# Altium footprint library Otto Pcb Lib.PcbLib: 46 footprints (part 2 of 3)
Each footprint in its own frame and in the unit in brackets; x right, y up, seen from the top. Pads: shape width x height; smd on the part's side, far side on the other; paste and mask are expansions set on the pad; w line width, h text height; cw(c..) or ccw(c..) is an arc to the next point about the centre after c.
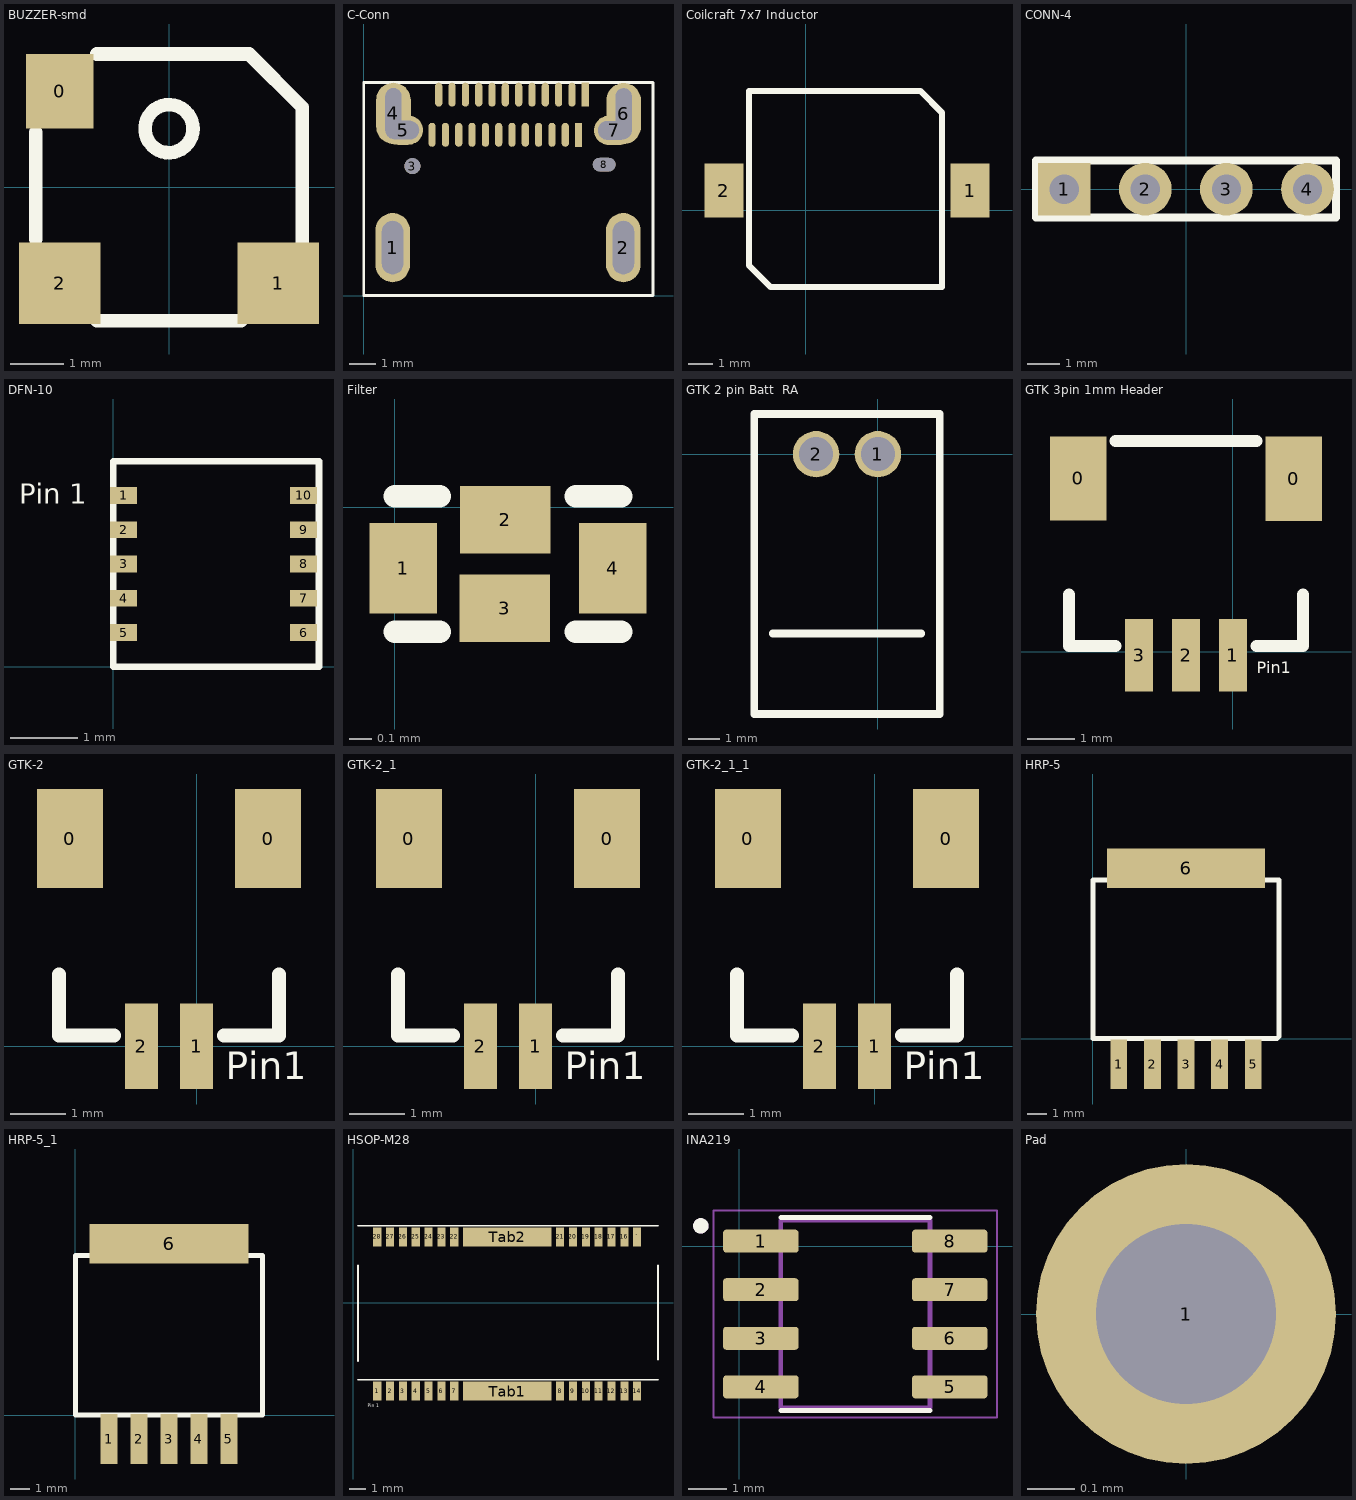
[diagram p1: the footprints below, top view; thin cyan lines are the x and y axes]

## BUZZER-smd [mm]
height 0.5
pads (3):
  rect 1.27x1.397 smd: 0(-2.05,1.8)
  rect 1.524x1.524 smd: 1(2.05,-1.8) 2(-2.05,-1.8)
Top Overlay:
  circle w0.254: c0,1.1 r0.45
  lines w0.254: -2.5,-0.97 -2.5,1.029 ; -1.35,-2.5 1.35,-2.5 ; -1.35,2.5 1.5,2.5 2.5,1.5 2.5,-1.1

## C-Conn [mm] "GTK Type C Connector"
height 0.127
pads (32):
  oval 1.3x2.6 hole 0.8 slot 2 at 90 deg: 1(1.086,1.8) 2(9.746,1.8)
  round 0.6 hole 0.6: 3(1.826,4.855)
  oval 1.3x2.3 hole 0.6 slot 1.9 at 90 deg: 4(1.116,6.84) 6(9.756,6.83)
  oval 1.5x1.1 hole 0.7 slot 1.2 at 0 deg: 5(1.476,6.21) 7(9.396,6.2)
  oval 0.85x0.5 hole 0.5 slot 0.85 at 0 deg: 8(9.026,4.915)
  oval 0.27x0.9 smd: A1(2.816,7.54) A2(3.316,7.54) A3(3.816,7.54) A4(4.316,7.54) A5(4.816,7.54) A6(5.316,7.54) A7(5.816,7.54) A8(6.316,7.54) A9(6.816,7.54) A10(7.316,7.54) A11(7.816,7.54) B2(7.566,6.035) B3(7.066,6.035) B4(6.566,6.035) B5(6.066,6.035) B6(5.566,6.035) B7(5.066,6.035) B8(4.566,6.035) B9(4.066,6.035) B10(3.566,6.035) B11(3.066,6.035) B12(2.566,6.035)
  rect 0.27x0.9 smd: A12(8.316,7.54) B1(8.066,6.035)
Top Overlay:
  lines w0.1: 10.856,0 10.856,8 -0.004,8 -0.004,0 5.426,0 10.857,0

## Coilcraft 7x7 Inductor [mm]
height 1.9
pads (2):
  rect 1.6x2.2 smd: 1(6.69,0.796) 2(-3.343,0.796)
Top Overlay:
  lines w0.254: -2.327,-2.252 -1.438,-3.141 5.547,-3.141 5.547,3.971 4.658,4.86 -2.327,4.86 -2.327,-2.252
Top Solder:
  lines w0.254: 4.277,-3.141 5.547,-3.141

## CONN-4 [mil]
pads (4):
  rect 65x65 hole 36: 1(-150.21,-0.27)
  round 65 hole 36: 2(-50.21,-0.27) 3(49.79,-0.27) 4(149.79,-0.27)
Top Overlay:
  lines w10: -185,-35 -185,35 185,35 185,-35 -185,-35

## DFN-10 [mm]
height 1.9
pads (10):
  rect 0.4x0.25 smd: 1(0.153,2.54) 2(0.153,2.032) 3(0.153,1.524) 4(0.153,1.016) 5(0.153,0.508) 6(2.82,0.508) 7(2.82,1.016) 8(2.82,1.524) 9(2.82,2.032) 10(2.82,2.54)
Top Overlay:
  lines w0.1: 0,0 3.048,0 3.048,3.048 0.762,3.048 0,3.048 0,0
  text "Pin 1" at -1.397,2.413 h0.3

## Filter [mm] "Taiyo Uden 4 pin SMD"
pads (4):
  rect 0.3x0.4 smd: 1(0.038,-0.269) 4(0.964,-0.269)
  rect 0.4x0.3 smd: 2(0.488,-0.055) 3(0.486,-0.445)
Top Overlay:
  lines w0.1: 0,-0.55 0.2,-0.55 ; 0,0.05 0.2,0.05 ; 0.8,-0.55 1,-0.55 ; 0.8,0.05 1,0.05

## GTK 2 pin Batt  RA [mm] "GTK 2 Pin R/A 2.0MM WTBM-02S-TH1T-R"
pads (2):
  round 1.5 hole 1.1: 1(0,0) 2(-2,0)
Top Overlay:
  lines w0.254: -3.4,-5.8 1.4,-5.8 ; -4,-8.4 -4,1.3 2,1.3 2,-8.4 -4,-8.4

## GTK 3pin 1mm Header [mm] "3 pin RA GTK"
height 1.9
pads (5):
  rect 1.2x1.8 smd: 0(-3.3,3.7) 0(1.3,3.697)
  rect 0.6x1.55 smd: 1(0,-0.073) 2(-1,-0.073) 3(-2,-0.073)
Top Overlay:
  lines w0.254: -3.5,1.227 -3.5,0.127 -2.5,0.127 ; -2.5,4.5 0.5,4.497 ; 0.5,0.127 1.5,0.127 1.5,1.227
  text "Pin1" at 0.508,-0.454 h0.25

## GTK-2 [mm] "SMT  2 pin connector"
height 1.9
pads (4):
  rect 1.2x1.8 smd: 0(-2.3,3.77) 0(1.3,3.77)
  rect 0.6x1.55 smd: 1(0,0) 2(-1,0)
Top Overlay:
  lines w0.254: -2.5,1.3 -2.5,0.2 -1.5,0.2 ; 0.5,0.2 1.5,0.2 1.5,1.3
  text "Pin1" at 0.53,-0.6 h0.5

## GTK-2_1 [mm] "SMT  2 pin connector"
height 1.9
pads (4):
  rect 1.2x1.8 smd: 0(-2.3,3.77) 0(1.3,3.77)
  rect 0.6x1.55 smd: 1(0,0) 2(-1,0)
Top Overlay:
  lines w0.254: -2.5,1.3 -2.5,0.2 -1.5,0.2 ; 0.5,0.2 1.5,0.2 1.5,1.3
  text "Pin1" at 0.53,-0.6 h0.5

## GTK-2_1_1 [mm] "SMT  2 pin connector"
height 1.9
pads (4):
  rect 1.2x1.8 smd: 0(-2.3,3.77) 0(1.3,3.77)
  rect 0.6x1.55 smd: 1(0,0) 2(-1,0)
Top Overlay:
  lines w0.254: -2.5,1.3 -2.5,0.2 -1.5,0.2 ; 0.5,0.2 1.5,0.2 1.5,1.3
  text "Pin1" at 0.53,-0.6 h0.5

## HRP-5 [mm]
pads (6):
  rect 0.85x2.5 all layers, no hole: 1(1.3,-1.3) 2(3,-1.3) 3(4.7,-1.3) 4(6.4,-1.3) 5(8.1,-1.3)
  rect 8x2 all layers, no hole: 6(4.7,8.6)
Top Overlay:
  lines w0.254: 9.3,0 0,0 0,8 0.2,8 9.4,8 9.4,0.1

## HRP-5_1 [mm]
height 1.9
pads (6):
  rect 0.85x2.5 smd: 1(1.7,-1.2) 2(3.2,-1.2) 3(4.7,-1.2) 4(6.2,-1.2) 5(7.7,-1.2)
  rect 8x2 smd: 6(4.7,8.6)
Top Overlay:
  lines w0.254: 0,0 9.4,0 9.4,8 0.2,8 0,8 0,0

## HSOP-M28 [mm]
height 1.9
pads (30):
  rect 0.5x1.2 smd: 1(1.5,-5.5) 2(2.3,-5.5) 3(3.1,-5.5) 4(3.9,-5.5) 5(4.7,-5.5) 6(5.5,-5.5) 7(6.3,-5.5) 8(12.9,-5.5) 9(13.7,-5.5) 10(14.5,-5.5) 11(15.3,-5.5) 12(16.1,-5.5) 13(16.9,-5.5) 14(17.7,-5.5) 16(16.9,4.1) 17(16.1,4.1) 18(15.3,4.1) 19(14.5,4.1) 20(13.7,4.1) 21(12.9,4.1) 22(6.3,4.1) 23(5.5,4.1) 24(4.7,4.1) 25(3.9,4.1) 26(3.1,4.1) 27(2.3,4.1) 28(1.5,4.1) `(17.7,4.1)
  rect 5.5x1.2 smd: Tab1(9.6,-5.5) Tab2(9.6,4.1)
Top Overlay:
  lines w0.1: 0.3,-4.81 19,-4.81 ; 0.3,-3.65 0.3,2.35 ; 0.3,4.81 19,4.81 ; 19,-3.55 19,2.35
  text "Pin 1" at 0.9,-6.5 h0.2

## INA219 [mm]
height 1.9
pads (8):
  rrect25% 1.97x0.6 smd: 1(0.562,0.127) 2(0.562,-1.143) 3(0.562,-2.413) 4(0.562,-3.683) 5(5.502,-3.683) 6(5.502,-2.413) 7(5.502,-1.143) 8(5.502,0.127)
Top Overlay:
  circle w0.2: c-1.008,0.527 r0.1
  lines w0.127: 1.082,-4.303 4.982,-4.303 ; 1.082,0.747 4.982,0.747
Mechanical 13:
  circle w0.2: c-1.008,0.527 r0.1
  lines w0.127: 1.082,-4.23 1.082,0.674 4.982,0.674 4.982,-4.23 1.082,-4.23
Mechanical 15:
  lines w0.05: -0.673,-4.48 -0.673,0.924 6.737,0.924 6.737,-4.48 -0.673,-4.48

## Pad [mil]
height 74.8
pads (1):
  round 25 hole 15: 1(0,0)